# EAGLE library part 74HC541 (library nxp)
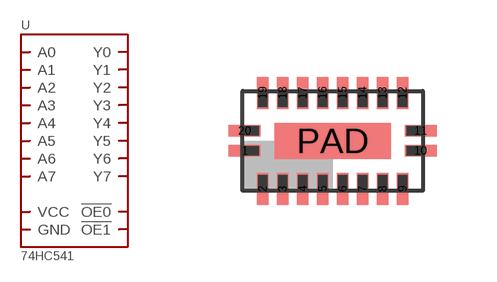
[diagram p5: symbol with the pads of DHVQFN20; footprint DHVQFN20]

Designator prefix -

## 74HC541  [DHVQFN20]
1  !OE0!
2  A0
3  A1
4  A2
5  A3
6  A4
7  A5
8  A6
9  A7
10  GND
11  Y7
12  Y6
13  Y5
14  Y4
15  Y3
16  Y2
17  Y1
18  Y0
19  !OE1!
20  VCC
PAD  GND

## Footprint DHVQFN20 (pad centres in mm)
smd 0.8 x 0.29: 1 -2.2,-0.25; 10 2.2,-0.25; 11 2.2,0.25; 20 -2.2,0.25
smd 0.29 x 0.8: 2 -1.75,-1.2; 3 -1.25,-1.2; 4 -0.75,-1.2; 5 -0.25,-1.2; 6 0.25,-1.2; 7 0.75,-1.2; 8 1.25,-1.2; 9 1.75,-1.2; 12 1.75,1.2; 13 1.25,1.2; 14 0.75,1.2; 15 0.25,1.2; 16 -0.25,1.2; 17 -0.75,1.2; 18 -1.25,1.2; 19 -1.75,1.2
smd 2.9 x 0.9: PAD 0,0